# Altium schematic symbol library ht42b533_1.SchLib: 1 symbol
Pins are listed as number, name and electrical type; pins without a type are passive.

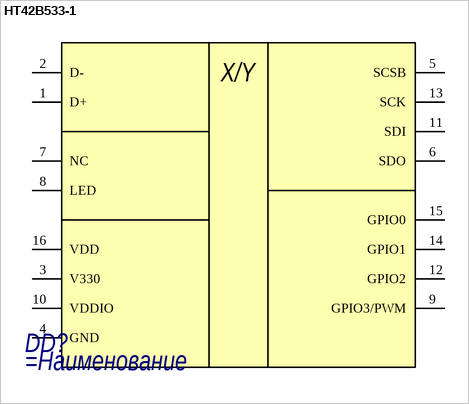
[diagram p0: symbol HT42B533-1]

## HT42B533-1
designator DD?
=Описание
pins: 1 D+, 2 D-, 3 V330, 4 GND, 5 SCSB, 6 SDO, 7 NC, 8 LED, 9 GPIO3/PWM, 10 VDDIO, 11 SDI, 12 GPIO2, 13 SCK, 14 GPIO1, 15 GPIO0, 16 VDD
text: X/Y